# Altium footprint library gh1.25-3pin.PcbLib: 2 footprints
Each footprint in its own frame and in the unit in brackets; x right, y up, seen from the top. Pads: shape width x height; smd on the part's side, far side on the other; paste and mask are expansions set on the pad; w line width, h text height; cw(c..) or ccw(c..) is an arc to the next point about the centre after c.
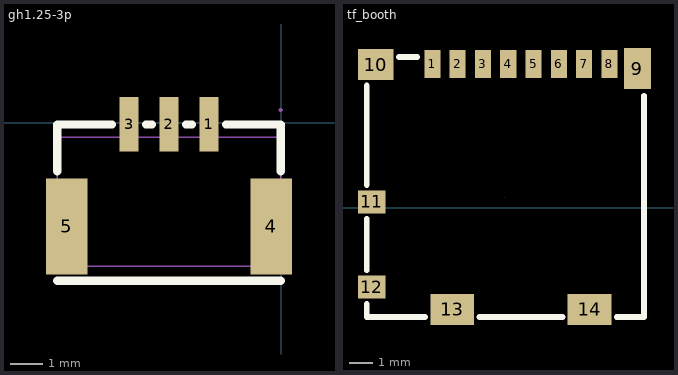
[diagram p0: the footprints below, top view; thin cyan lines are the x and y axes]

## gh1.25-3p [mm] "GH1.25"
pads (5):
  rect 0.6x1.7 smd paste+0 mask+0.051: 1(-2.266,-0.053) 2(-3.516,-0.053) 3(-4.766,-0.053)
  rect 1.3x3 smd paste+0 mask+0.051: 4(-0.316,-3.253) 5(-6.716,-3.253)
Top Overlay:
  lines w0.254: -7.016,-4.953 -0.016,-4.953 ; -7.016,-1.522 -7.016,-0.053 -5.297,-0.053 ; -4.235,-0.053 -4.047,-0.053 ; -2.985,-0.053 -2.797,-0.053 ; -1.736,-0.053 -0.016,-0.053 -0.016,-1.522
Mechanical 15:
  region: -0.466,-2.153 -0.166,-2.153 -0.166,-4.353 -0.466,-4.353
  region: -6.866,-2.153 -6.566,-2.153 -6.566,-4.353 -6.866,-4.353
  region: -2.166,-0.801 -2.366,-0.801 -2.366,0.399 -2.166,0.399
  region: -3.416,-0.801 -3.616,-0.801 -3.616,0.399 -3.416,0.399
  region: -4.666,-0.801 -4.866,-0.801 -4.866,0.399 -4.666,0.399
  region: 0.044,0.399 0.044,0.424 0.009,0.459 -0.041,0.459 -0.076,0.424 -0.076,0.399 -0.076,0.374 -0.041,0.339 0.009,0.339 0.044,0.374
  lines w0.051: -7.016,-4.501 -0.016,-4.501 -0.016,-0.451 -7.016,-0.451 -7.016,-4.501

## tf_booth [mm]
pads (14):
  rect 0.7x1.2 smd: 1(38.068,6.254) 2(39.168,6.254) 3(40.268,6.254) 4(41.368,6.254) 5(42.468,6.254) 6(43.568,6.254) 7(44.668,6.254) 8(45.768,6.254)
  rect 1.17x1.8 smd: 9(46.978,6.054)
  rect 1.55x1.35 smd: 10(35.608,6.229)
  rect 1.2x1 smd: 11(35.433,0.254) 12(35.433,-3.446)
  rect 1.9x1.35 smd: 13(38.933,-4.421) 14(44.903,-4.421)
Top Overlay:
  lines w0.254: 35.212,-4.177 35.212,-4.749 37.752,-4.749 ; 35.212,-2.715 35.212,-0.477 ; 35.212,0.985 35.212,5.323 ; 36.614,6.554 37.412,6.554 ; 40.114,-4.749 43.722,-4.749 ; 46.084,-4.749 47.277,-4.749 47.277,4.873
Mechanical 15:
  lines w0.003: 41.198,0.44 41.198,0.44